# Altium schematic symbol library AA3528VRVFS_A.SchLib: 1 symbol
Pins are listed as number, name and electrical type; pins without a type are passive.

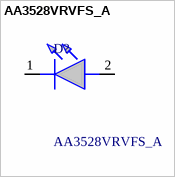
[diagram p0: symbol AA3528VRVFS_A]

## AA3528VRVFS_A
designator D?
LED Uni-Color Violet 2-Pin SMD T/R; Manufacturer_Name: Kingbright; Manufacturer_Part_Number: AA3528VRVFS/A; Geometry.Height: 2.1mm; Mouser Part Number: 604-AA3528VRVFS/A; Mouser Price/Stock: https://www.mouser.co.uk/ProductDetail/Kingbright/AA3528VRVFS-A?qs=rY7msk5yxfb63mh907EyRA%3D%3D; Arrow Part Number: AA3528VRVFS/A; Arrow Price/Stock: https://www.arrow.com/en/products/aa3528vrvfsa/kingbright?region=nac; Datasheet Link: https://mouser.componentsearchengine.com/Datasheets/1/AA3528VRVFS_A.pdf
footprint AA3528VRVFSA
pins: 1 K, 2 A